# Altium schematic symbol library SCH - RF - SWITCH - SKYWORKS SKY13351-378LF.SCHLIB: 1 symbol
Pins are listed as number, name and electrical type; pins without a type are passive.

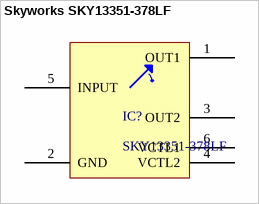
[diagram p0: symbol Skyworks SKY13351-378LF]

## Skyworks SKY13351-378LF
designator IC?, comment SKY13351-378LF
20 MHz-6.0 GHz GaAs SPDT Switch
pins: 1 OUT1, 2 GND, 3 OUT2, 4 VCTL2, 5 INPUT, 6 VCTL1